# EAGLE library part SW-DPDT-(2-GATES) (library magzor)
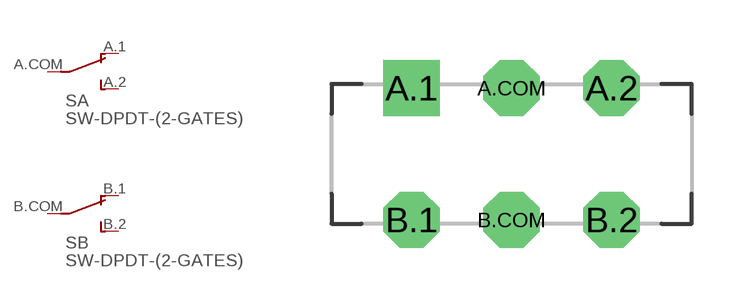
[diagram p46: symbol with the pads of JS202011CQN; footprint JS202011CQN]

Designator prefix S; gates A=SWITCH-SPDT B=SWITCH-SPDT

## SW-DPDT-(2-GATES)-JS202011  [JS202011CQN]
A.1  A:1  pas
A.2  A:2  pas
A.COM  A:COM  pas
B.1  B:1  pas
B.2  B:2  pas
B.COM  B:COM  pas

## Footprint JS202011CQN (pad centres in mm)
C&K DPDT slide switch, 9mm x 3.5mm
drill 0.9 square: A.1 -2.5,1.65
drill 0.9 octagon: A.2 2.5,1.65; A.COM 0,1.65; B.1 -2.5,-1.65; B.2 2.5,-1.65; B.COM 0,-1.65